# Altium footprint library Connector_Dsub.PcbLib: 104 footprints (part 1 of 7)
Each footprint in its own frame and in the unit in brackets; x right, y up, seen from the top. Pads: shape width x height; smd on the part's side, far side on the other; paste and mask are expansions set on the pad; w line width, h text height; cw(c..) or ccw(c..) is an arc to the next point about the centre after c.
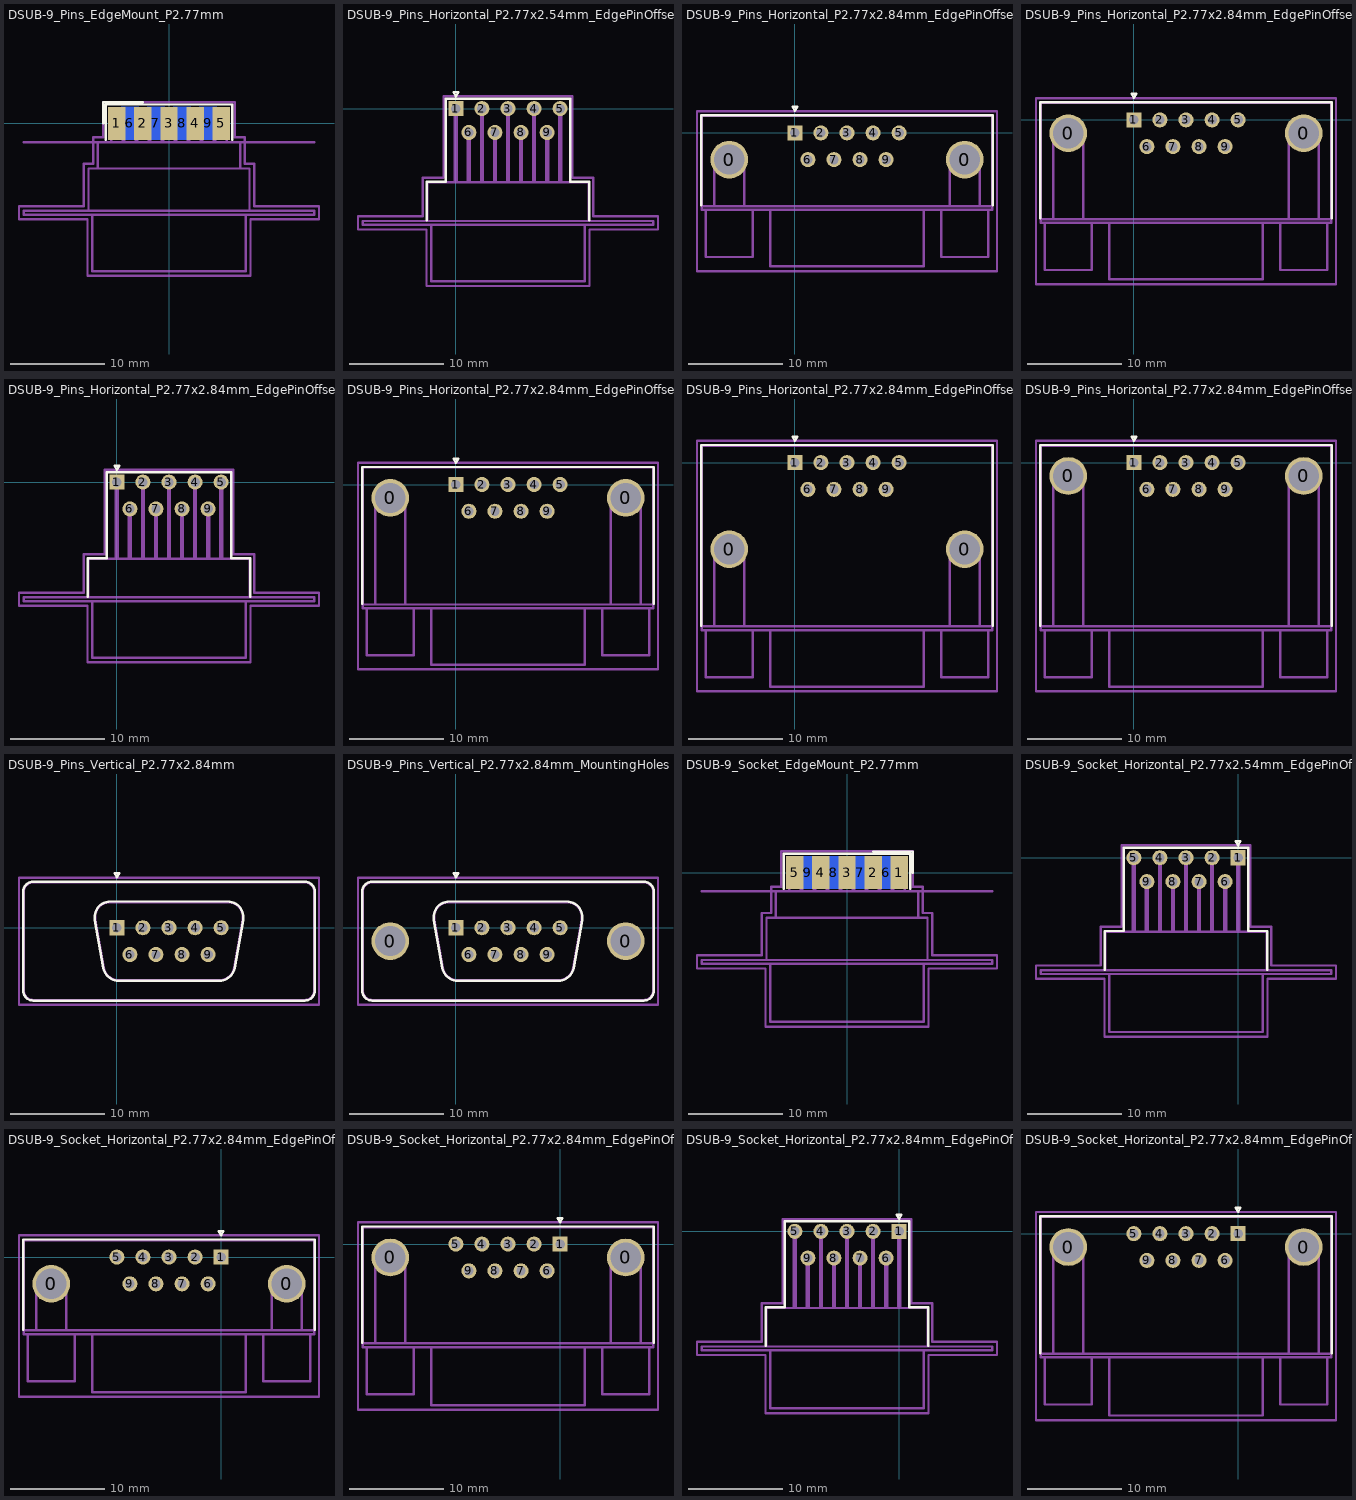
[diagram p0: the footprints below, top view; thin cyan lines are the x and y axes]

## DSUB-9_Pins_EdgeMount_P2.77mm [mm]
pads (9):
  rect 1.847x3.48 smd: 1(-5.54,0) 2(-2.77,0) 3(0,0) 4(2.77,0) 5(5.54,0)
  rect 1.847x3.48 smd far side: 6(-4.155,0) 7(-1.385,0) 8(1.385,0) 9(4.155,0)
F.SilkS:
  lines w0.254: -6.963,0 -6.963,2.24 -2.77,2.24 ; -6.723,-1.74 -6.723,2 6.723,2 6.723,-1.74
F.Fab:
  lines w0.254: -15.425,-9.69 -15.425,-9.29 15.425,-9.29 15.425,-9.69 -15.425,-9.69 ; -8.55,-9.29 -8.55,-4.79 8.55,-4.79 8.55,-9.29 -8.55,-9.29 ; -8.15,-15.69 -8.15,-9.69 8.15,-9.69 8.15,-15.69 -8.15,-15.69 ; -7.55,-4.79 -7.55,-1.99 7.55,-1.99 7.55,-4.79 -7.55,-4.79 ; -6.14,-1.99 -6.14,0.91 -4.94,0.91 -4.94,-1.99 -6.14,-1.99 ; -3.37,-1.99 -3.37,0.91 -2.17,0.91 -2.17,-1.99 -3.37,-1.99 ; -0.6,-1.99 -0.6,0.91 0.6,0.91 0.6,-1.99 -0.6,-1.99 ; 2.17,-1.99 2.17,0.91 3.37,0.91 3.37,-1.99 2.17,-1.99 ; 4.94,-1.99 4.94,0.91 6.14,0.91 6.14,-1.99 4.94,-1.99
  text "'.Designator'" at -4.047,-4.23 h1
B.Fab:
  lines w0.254: -4.755,-1.99 -4.755,0.91 -3.555,0.91 -3.555,-1.99 -4.755,-1.99 ; -1.985,-1.99 -1.985,0.91 -0.785,0.91 -0.785,-1.99 -1.985,-1.99 ; 0.785,-1.99 0.785,0.91 1.985,0.91 1.985,-1.99 0.785,-1.99 ; 3.555,-1.99 3.555,0.91 4.755,0.91 4.755,-1.99 3.555,-1.99
F.CrtYd:
  lines w0.254: -15.93,-10.19 -15.93,-8.79 -9.05,-8.79 -9.05,-4.29 -8.05,-4.29 -8.05,-1.49 -6.97,-1.49 -6.97,2.25 6.97,2.25 6.97,-1.49 8.05,-1.49 8.05,-4.29 9.05,-4.29 9.05,-8.79 15.93,-8.79 15.93,-10.19 8.65,-10.19 8.65,-16.19 -8.65,-16.19 -8.65,-10.19 -15.93,-10.19
Dwgs.User:
  lines w0.254: -15.425,-1.99 15.425,-1.99
  text "PCB edge" at -12.148,-1.732 h0.5

## DSUB-9_Pins_Horizontal_P2.77x2.54mm_EdgePinOffset9.40mm [mm]
pads (9):
  rect 1.6x1.6 hole 1: 1(0,0)
  round 1.6 hole 1: 2(2.77,0) 3(5.54,0) 4(8.31,0) 5(11.08,0) 6(1.385,-2.54) 7(4.155,-2.54) 8(6.925,-2.54) 9(9.695,-2.54)
F.SilkS:
  lines w0.254: -3.07,-11.88 -3.07,-7.78 -1.06,-7.78 -1.06,1.06 12.14,1.06 12.14,-7.78 14.15,-7.78 14.15,-11.88 ; -0.25,1.754 0.25,1.754 0,1.321 -0.25,1.754
F.Fab:
  lines w0.254: -0.1,-7.84 -0.1,0 ; 0,-7.84 0,0 ; 0.1,-7.84 0.1,0 ; 1.285,-7.84 1.285,-2.54 ; 1.385,-7.84 1.385,-2.54 ; 1.485,-7.84 1.485,-2.54 ; 2.67,-7.84 2.67,0 ; 2.77,-7.84 2.77,0 ; 2.87,-7.84 2.87,0 ; 4.055,-7.84 4.055,-2.54 ; 4.155,-7.84 4.155,-2.54 ; 4.255,-7.84 4.255,-2.54 ; 5.44,-7.84 5.44,0 ; 5.54,-7.84 5.54,0 ; 5.64,-7.84 5.64,0 ; 6.825,-7.84 6.825,-2.54 ; 6.925,-7.84 6.925,-2.54 ; 7.025,-7.84 7.025,-2.54 ; 8.21,-7.84 8.21,0 ; 8.31,-7.84 8.31,0 ; 8.41,-7.84 8.41,0 ; 9.595,-7.84 9.595,-2.54 ; 9.695,-7.84 9.695,-2.54 ; 9.795,-7.84 9.795,-2.54 ; 10.98,-7.84 10.98,0 ; 11.08,-7.84 11.08,0 ; 11.18,-7.84 11.18,0 ; -9.885,-12.34 -9.885,-11.94 20.965,-11.94 20.965,-12.34 -9.885,-12.34 ; -3.01,-11.94 -3.01,-7.84 14.09,-7.84 14.09,-11.94 -3.01,-11.94 ; -2.61,-18.34 -2.61,-12.34 13.69,-12.34 13.69,-18.34 -2.61,-18.34
  text "'.Designator'" at 1.493,-16.18 h1
F.CrtYd:
  lines w0.254: -10.39,-12.84 -10.39,-11.44 -3.52,-11.44 -3.52,-7.34 -1.3,-7.34 -1.3,1.31 12.38,1.31 12.38,-7.34 14.59,-7.34 14.59,-11.44 21.47,-11.44 21.47,-12.84 14.19,-12.84 14.19,-18.84 -3.11,-18.84 -3.11,-12.84 -10.39,-12.84

## DSUB-9_Pins_Horizontal_P2.77x2.84mm_EdgePinOffset4.94mm_Housed_MountingHolesOffset4.94mm [mm]
pads (11):
  round 4 hole 3.2: 0(-6.96,-2.84) 0(18.04,-2.84)
  rect 1.6x1.6 hole 1: 1(0,0)
  round 1.6 hole 1: 2(2.77,0) 3(5.54,0) 4(8.31,0) 5(11.08,0) 6(1.385,-2.84) 7(4.155,-2.84) 8(6.925,-2.84) 9(9.695,-2.84)
F.SilkS:
  lines w0.254: -9.945,-7.72 -9.945,1.86 21.025,1.86 21.025,-7.72 ; -0.25,2.754 0.25,2.754 0,2.321 -0.25,2.754
F.Fab:
  lines w0.254: -8.56,-7.78 -8.56,-2.84 cw(c-6.96,-2.84) -5.36,-2.84 -5.36,-7.78 ; 16.44,-7.78 16.44,-2.84 cw(c18.04,-2.84) 19.64,-2.84 19.64,-7.78 ; -9.885,-7.78 -9.885,1.8 20.965,1.8 20.965,-7.78 ; -9.885,-7.78 -9.885,-8.18 20.965,-8.18 20.965,-7.78 ; -9.885,-7.78 20.965,-7.78 ; -9.885,-7.78 20.965,-7.78 ; -9.46,-13.18 -9.46,-8.18 -4.46,-8.18 -4.46,-13.18 -9.46,-13.18 ; -2.61,-14.18 -2.61,-8.18 13.69,-8.18 13.69,-14.18 -2.61,-14.18 ; 15.54,-13.18 15.54,-8.18 20.54,-8.18 20.54,-13.18 15.54,-13.18
  text "'.Designator'" at 1.493,-12.02 h1
F.CrtYd:
  lines w0.254: -10.39,-14.68 -10.39,2.31 21.47,2.31 21.47,-14.68 -10.39,-14.68

## DSUB-9_Pins_Horizontal_P2.77x2.84mm_EdgePinOffset7.70mm_Housed_MountingHolesOffset9.12mm [mm]
pads (11):
  round 4 hole 3.2: 0(-6.96,-1.42) 0(18.04,-1.42)
  rect 1.6x1.6 hole 1: 1(0,0)
  round 1.6 hole 1: 2(2.77,0) 3(5.54,0) 4(8.31,0) 5(11.08,0) 6(1.385,-2.84) 7(4.155,-2.84) 8(6.925,-2.84) 9(9.695,-2.84)
F.SilkS:
  lines w0.254: -9.945,-10.48 -9.945,1.86 21.025,1.86 21.025,-10.48 ; -0.25,2.754 0.25,2.754 0,2.321 -0.25,2.754
F.Fab:
  lines w0.254: -8.56,-10.54 -8.56,-1.42 cw(c-6.96,-1.42) -5.36,-1.42 -5.36,-10.54 ; 16.44,-10.54 16.44,-1.42 cw(c18.04,-1.42) 19.64,-1.42 19.64,-10.54 ; -9.885,-10.54 -9.885,1.8 20.965,1.8 20.965,-10.54 ; -9.885,-10.54 -9.885,-10.94 20.965,-10.94 20.965,-10.54 ; -9.885,-10.54 20.965,-10.54 ; -9.885,-10.54 20.965,-10.54 ; -9.46,-15.94 -9.46,-10.94 -4.46,-10.94 -4.46,-15.94 -9.46,-15.94 ; -2.61,-16.94 -2.61,-10.94 13.69,-10.94 13.69,-16.94 -2.61,-16.94 ; 15.54,-15.94 15.54,-10.94 20.54,-10.94 20.54,-15.94 15.54,-15.94
  text "'.Designator'" at 1.493,-14.78 h1
F.CrtYd:
  lines w0.254: -10.39,-17.44 -10.39,2.31 21.47,2.31 21.47,-17.44 -10.39,-17.44

## DSUB-9_Pins_Horizontal_P2.77x2.84mm_EdgePinOffset9.40mm [mm]
pads (9):
  rect 1.6x1.6 hole 1: 1(0,0)
  round 1.6 hole 1: 2(2.77,0) 3(5.54,0) 4(8.31,0) 5(11.08,0) 6(1.385,-2.84) 7(4.155,-2.84) 8(6.925,-2.84) 9(9.695,-2.84)
F.SilkS:
  lines w0.254: -3.07,-12.18 -3.07,-8.08 -1.06,-8.08 -1.06,1.06 12.14,1.06 12.14,-8.08 14.15,-8.08 14.15,-12.18 ; -0.25,1.754 0.25,1.754 0,1.321 -0.25,1.754
F.Fab:
  lines w0.254: -0.1,-8.14 -0.1,0 ; 0,-8.14 0,0 ; 0.1,-8.14 0.1,0 ; 1.285,-8.14 1.285,-2.84 ; 1.385,-8.14 1.385,-2.84 ; 1.485,-8.14 1.485,-2.84 ; 2.67,-8.14 2.67,0 ; 2.77,-8.14 2.77,0 ; 2.87,-8.14 2.87,0 ; 4.055,-8.14 4.055,-2.84 ; 4.155,-8.14 4.155,-2.84 ; 4.255,-8.14 4.255,-2.84 ; 5.44,-8.14 5.44,0 ; 5.54,-8.14 5.54,0 ; 5.64,-8.14 5.64,0 ; 6.825,-8.14 6.825,-2.84 ; 6.925,-8.14 6.925,-2.84 ; 7.025,-8.14 7.025,-2.84 ; 8.21,-8.14 8.21,0 ; 8.31,-8.14 8.31,0 ; 8.41,-8.14 8.41,0 ; 9.595,-8.14 9.595,-2.84 ; 9.695,-8.14 9.695,-2.84 ; 9.795,-8.14 9.795,-2.84 ; 10.98,-8.14 10.98,0 ; 11.08,-8.14 11.08,0 ; 11.18,-8.14 11.18,0 ; -9.885,-12.64 -9.885,-12.24 20.965,-12.24 20.965,-12.64 -9.885,-12.64 ; -3.01,-12.24 -3.01,-8.14 14.09,-8.14 14.09,-12.24 -3.01,-12.24 ; -2.61,-18.64 -2.61,-12.64 13.69,-12.64 13.69,-18.64 -2.61,-18.64
  text "'.Designator'" at 1.493,-16.48 h1
F.CrtYd:
  lines w0.254: -10.39,-13.14 -10.39,-11.74 -3.52,-11.74 -3.52,-7.64 -1.3,-7.64 -1.3,1.31 12.38,1.31 12.38,-7.64 14.59,-7.64 14.59,-11.74 21.47,-11.74 21.47,-13.14 14.19,-13.14 14.19,-19.14 -3.11,-19.14 -3.11,-13.14 -10.39,-13.14

## DSUB-9_Pins_Horizontal_P2.77x2.84mm_EdgePinOffset9.90mm_Housed_MountingHolesOffset11.32mm [mm]
pads (11):
  round 4 hole 3.2: 0(-6.96,-1.42) 0(18.04,-1.42)
  rect 1.6x1.6 hole 1: 1(0,0)
  round 1.6 hole 1: 2(2.77,0) 3(5.54,0) 4(8.31,0) 5(11.08,0) 6(1.385,-2.84) 7(4.155,-2.84) 8(6.925,-2.84) 9(9.695,-2.84)
F.SilkS:
  lines w0.254: -9.945,-12.68 -9.945,1.86 21.025,1.86 21.025,-12.68 ; -0.25,2.754 0.25,2.754 0,2.321 -0.25,2.754
F.Fab:
  lines w0.254: -8.56,-12.74 -8.56,-1.42 cw(c-6.96,-1.42) -5.36,-1.42 -5.36,-12.74 ; 16.44,-12.74 16.44,-1.42 cw(c18.04,-1.42) 19.64,-1.42 19.64,-12.74 ; -9.885,-12.74 -9.885,1.8 20.965,1.8 20.965,-12.74 ; -9.885,-12.74 -9.885,-13.14 20.965,-13.14 20.965,-12.74 ; -9.885,-12.74 20.965,-12.74 ; -9.885,-12.74 20.965,-12.74 ; -9.46,-18.14 -9.46,-13.14 -4.46,-13.14 -4.46,-18.14 -9.46,-18.14 ; -2.61,-19.14 -2.61,-13.14 13.69,-13.14 13.69,-19.14 -2.61,-19.14 ; 15.54,-18.14 15.54,-13.14 20.54,-13.14 20.54,-18.14 15.54,-18.14
  text "'.Designator'" at 1.493,-16.98 h1
F.CrtYd:
  lines w0.254: -10.39,-19.64 -10.39,2.31 21.47,2.31 21.47,-19.64 -10.39,-19.64

## DSUB-9_Pins_Horizontal_P2.77x2.84mm_EdgePinOffset14.56mm_Housed_MountingHolesOffset8.20mm [mm]
pads (11):
  round 4 hole 3.2: 0(-6.96,-9.2) 0(18.04,-9.2)
  rect 1.6x1.6 hole 1: 1(0,0)
  round 1.6 hole 1: 2(2.77,0) 3(5.54,0) 4(8.31,0) 5(11.08,0) 6(1.385,-2.84) 7(4.155,-2.84) 8(6.925,-2.84) 9(9.695,-2.84)
F.SilkS:
  lines w0.254: -9.945,-17.34 -9.945,1.86 21.025,1.86 21.025,-17.34 ; -0.25,2.754 0.25,2.754 0,2.321 -0.25,2.754
F.Fab:
  lines w0.254: -8.56,-17.4 -8.56,-9.2 cw(c-6.96,-9.2) -5.36,-9.2 -5.36,-17.4 ; 16.44,-17.4 16.44,-9.2 cw(c18.04,-9.2) 19.64,-9.2 19.64,-17.4 ; -9.885,-17.4 -9.885,1.8 20.965,1.8 20.965,-17.4 ; -9.885,-17.4 -9.885,-17.8 20.965,-17.8 20.965,-17.4 ; -9.885,-17.4 20.965,-17.4 ; -9.885,-17.4 20.965,-17.4 ; -9.46,-22.8 -9.46,-17.8 -4.46,-17.8 -4.46,-22.8 -9.46,-22.8 ; -2.61,-23.8 -2.61,-17.8 13.69,-17.8 13.69,-23.8 -2.61,-23.8 ; 15.54,-22.8 15.54,-17.8 20.54,-17.8 20.54,-22.8 15.54,-22.8
  text "'.Designator'" at 1.493,-21.64 h1
F.CrtYd:
  lines w0.254: -10.39,-24.3 -10.39,2.3 21.47,2.3 21.47,-24.3 -10.39,-24.3

## DSUB-9_Pins_Horizontal_P2.77x2.84mm_EdgePinOffset14.56mm_Housed_MountingHolesOffset15.98mm [mm]
pads (11):
  round 4 hole 3.2: 0(-6.96,-1.42) 0(18.04,-1.42)
  rect 1.6x1.6 hole 1: 1(0,0)
  round 1.6 hole 1: 2(2.77,0) 3(5.54,0) 4(8.31,0) 5(11.08,0) 6(1.385,-2.84) 7(4.155,-2.84) 8(6.925,-2.84) 9(9.695,-2.84)
F.SilkS:
  lines w0.254: -9.945,-17.34 -9.945,1.86 21.025,1.86 21.025,-17.34 ; -0.25,2.754 0.25,2.754 0,2.321 -0.25,2.754
F.Fab:
  lines w0.254: -8.56,-17.4 -8.56,-1.42 cw(c-6.96,-1.42) -5.36,-1.42 -5.36,-17.4 ; 16.44,-17.4 16.44,-1.42 cw(c18.04,-1.42) 19.64,-1.42 19.64,-17.4 ; -9.885,-17.4 -9.885,1.8 20.965,1.8 20.965,-17.4 ; -9.885,-17.4 -9.885,-17.8 20.965,-17.8 20.965,-17.4 ; -9.885,-17.4 20.965,-17.4 ; -9.885,-17.4 20.965,-17.4 ; -9.46,-22.8 -9.46,-17.8 -4.46,-17.8 -4.46,-22.8 -9.46,-22.8 ; -2.61,-23.8 -2.61,-17.8 13.69,-17.8 13.69,-23.8 -2.61,-23.8 ; 15.54,-22.8 15.54,-17.8 20.54,-17.8 20.54,-22.8 15.54,-22.8
  text "'.Designator'" at 1.493,-21.64 h1
F.CrtYd:
  lines w0.254: -10.39,-24.3 -10.39,2.3 21.47,2.3 21.47,-24.3 -10.39,-24.3

## DSUB-9_Pins_Vertical_P2.77x2.84mm [mm]
pads (9):
  rect 1.6x1.6 hole 1: 1(0,0)
  round 1.6 hole 1: 2(2.77,0) 3(5.54,0) 4(8.31,0) 5(11.08,0) 6(1.385,-2.84) 7(4.155,-2.84) 8(6.925,-2.84) 9(9.695,-2.84)
F.SilkS:
  lines w0.254: -9.945,-6.67 -9.945,3.83 cw(c-8.885,3.83) -8.885,4.89 19.965,4.89 cw(c19.965,3.83) 21.025,3.83 21.025,-6.67 cw(c19.965,-6.67) 19.965,-7.73 -8.885,-7.73 cw(c-8.885,-6.67) -9.945,-6.67 ; -2.326,0.842 -1.427,-4.258 ccw(c0.208,-3.97) 0.208,-5.63 10.872,-5.63 ccw(c10.872,-3.97) 12.507,-4.258 13.406,0.842 ccw(c11.772,1.13) 11.772,2.79 -0.692,2.79 ccw(c-0.692,1.13) -2.326,0.842 ; -0.25,5.784 0.25,5.784 0,5.351 -0.25,5.784
F.Fab:
  lines w0.254: -9.885,-6.67 -9.885,3.83 cw(c-8.885,3.83) -8.885,4.83 19.965,4.83 cw(c19.965,3.83) 20.965,3.83 20.965,-6.67 cw(c19.965,-6.67) 19.965,-7.67 -8.885,-7.67 cw(c-8.885,-6.67) -9.885,-6.67 ; -2.279,0.852 -1.38,-4.248 ccw(c0.196,-3.97) 0.196,-5.57 10.884,-5.57 ccw(c10.884,-3.97) 12.46,-4.248 13.359,0.852 ccw(c11.783,1.13) 11.783,2.73 -0.703,2.73 ccw(c-0.703,1.13) -2.279,0.852
  text "'.Designator'" at 1.493,-2.26 h1
F.CrtYd:
  lines w0.254: -10.39,-8.17 -10.39,5.33 21.47,5.33 21.47,-8.17 -10.39,-8.17

## DSUB-9_Pins_Vertical_P2.77x2.84mm_MountingHoles [mm]
pads (11):
  round 4 hole 3.2: 0(-6.96,-1.42) 0(18.04,-1.42)
  rect 1.6x1.6 hole 1: 1(0,0)
  round 1.6 hole 1: 2(2.77,0) 3(5.54,0) 4(8.31,0) 5(11.08,0) 6(1.385,-2.84) 7(4.155,-2.84) 8(6.925,-2.84) 9(9.695,-2.84)
F.SilkS:
  lines w0.254: -9.945,-6.67 -9.945,3.83 cw(c-8.885,3.83) -8.885,4.89 19.965,4.89 cw(c19.965,3.83) 21.025,3.83 21.025,-6.67 cw(c19.965,-6.67) 19.965,-7.73 -8.885,-7.73 cw(c-8.885,-6.67) -9.945,-6.67 ; -2.326,0.842 -1.427,-4.258 ccw(c0.208,-3.97) 0.208,-5.63 10.872,-5.63 ccw(c10.872,-3.97) 12.507,-4.258 13.406,0.842 ccw(c11.772,1.13) 11.772,2.79 -0.692,2.79 ccw(c-0.692,1.13) -2.326,0.842 ; -0.25,5.784 0.25,5.784 0,5.351 -0.25,5.784
F.Fab:
  lines w0.254: -9.885,-6.67 -9.885,3.83 cw(c-8.885,3.83) -8.885,4.83 19.965,4.83 cw(c19.965,3.83) 20.965,3.83 20.965,-6.67 cw(c19.965,-6.67) 19.965,-7.67 -8.885,-7.67 cw(c-8.885,-6.67) -9.885,-6.67 ; -2.279,0.852 -1.38,-4.248 ccw(c0.196,-3.97) 0.196,-5.57 10.884,-5.57 ccw(c10.884,-3.97) 12.46,-4.248 13.359,0.852 ccw(c11.783,1.13) 11.783,2.73 -0.703,2.73 ccw(c-0.703,1.13) -2.279,0.852
  text "'.Designator'" at 1.493,-2.26 h1
F.CrtYd:
  lines w0.254: -10.39,-8.17 -10.39,5.33 21.47,5.33 21.47,-8.17 -10.39,-8.17

## DSUB-9_Socket_EdgeMount_P2.77mm [mm]
pads (9):
  rect 1.847x3.48 smd: 1(5.54,0) 2(2.77,0) 3(0,0) 4(-2.77,0) 5(-5.54,0)
  rect 1.847x3.48 smd far side: 6(4.155,0) 7(1.385,0) 8(-1.385,0) 9(-4.155,0)
F.SilkS:
  lines w0.254: -6.723,-1.74 -6.723,2 6.723,2 6.723,-1.74 ; 2.77,2.24 6.963,2.24 6.963,0
F.Fab:
  lines w0.254: -15.425,-9.69 -15.425,-9.29 15.425,-9.29 15.425,-9.69 -15.425,-9.69 ; -8.55,-9.29 -8.55,-4.79 8.55,-4.79 8.55,-9.29 -8.55,-9.29 ; -8.15,-15.86 -8.15,-9.69 8.15,-9.69 8.15,-15.86 -8.15,-15.86 ; -7.55,-4.79 -7.55,-1.99 7.55,-1.99 7.55,-4.79 -7.55,-4.79 ; -6.14,-1.99 -6.14,0.91 -4.94,0.91 -4.94,-1.99 -6.14,-1.99 ; -3.37,-1.99 -3.37,0.91 -2.17,0.91 -2.17,-1.99 -3.37,-1.99 ; -0.6,-1.99 -0.6,0.91 0.6,0.91 0.6,-1.99 -0.6,-1.99 ; 2.17,-1.99 2.17,0.91 3.37,0.91 3.37,-1.99 2.17,-1.99 ; 4.94,-1.99 4.94,0.91 6.14,0.91 6.14,-1.99 4.94,-1.99
  text "'.Designator'" at -4.047,-4.23 h1
B.Fab:
  lines w0.254: -4.755,-1.99 -4.755,0.91 -3.555,0.91 -3.555,-1.99 -4.755,-1.99 ; -1.985,-1.99 -1.985,0.91 -0.785,0.91 -0.785,-1.99 -1.985,-1.99 ; 0.785,-1.99 0.785,0.91 1.985,0.91 1.985,-1.99 0.785,-1.99 ; 3.555,-1.99 3.555,0.91 4.755,0.91 4.755,-1.99 3.555,-1.99
F.CrtYd:
  lines w0.254: -15.93,-10.19 -15.93,-8.79 -9.05,-8.79 -9.05,-4.29 -8.05,-4.29 -8.05,-1.49 -6.97,-1.49 -6.97,2.25 6.97,2.25 6.97,-1.49 8.05,-1.49 8.05,-4.29 9.05,-4.29 9.05,-8.79 15.93,-8.79 15.93,-10.19 8.65,-10.19 8.65,-16.36 -8.65,-16.36 -8.65,-10.19 -15.93,-10.19
Dwgs.User:
  lines w0.254: -15.425,-1.99 15.425,-1.99
  text "PCB edge" at -12.148,-1.732 h0.5

## DSUB-9_Socket_Horizontal_P2.77x2.54mm_EdgePinOffset9.40mm [mm]
pads (9):
  rect 1.6x1.6 hole 1: 1(0,0)
  round 1.6 hole 1: 2(-2.77,0) 3(-5.54,0) 4(-8.31,0) 5(-11.08,0) 6(-1.385,-2.54) 7(-4.155,-2.54) 8(-6.925,-2.54) 9(-9.695,-2.54)
F.SilkS:
  lines w0.254: -14.15,-11.88 -14.15,-7.78 -12.14,-7.78 -12.14,1.06 1.06,1.06 1.06,-7.78 3.07,-7.78 3.07,-11.88 ; -0.25,1.754 0.25,1.754 0,1.321 -0.25,1.754
F.Fab:
  lines w0.254: -11.18,-7.84 -11.18,0 ; -11.08,-7.84 -11.08,0 ; -10.98,-7.84 -10.98,0 ; -9.795,-7.84 -9.795,-2.54 ; -9.695,-7.84 -9.695,-2.54 ; -9.595,-7.84 -9.595,-2.54 ; -8.41,-7.84 -8.41,0 ; -8.31,-7.84 -8.31,0 ; -8.21,-7.84 -8.21,0 ; -7.025,-7.84 -7.025,-2.54 ; -6.925,-7.84 -6.925,-2.54 ; -6.825,-7.84 -6.825,-2.54 ; -5.64,-7.84 -5.64,0 ; -5.54,-7.84 -5.54,0 ; -5.44,-7.84 -5.44,0 ; -4.255,-7.84 -4.255,-2.54 ; -4.155,-7.84 -4.155,-2.54 ; -4.055,-7.84 -4.055,-2.54 ; -2.87,-7.84 -2.87,0 ; -2.77,-7.84 -2.77,0 ; -2.67,-7.84 -2.67,0 ; -1.485,-7.84 -1.485,-2.54 ; -1.385,-7.84 -1.385,-2.54 ; -1.285,-7.84 -1.285,-2.54 ; -0.1,-7.84 -0.1,0 ; 0,-7.84 0,0 ; 0.1,-7.84 0.1,0 ; -20.965,-12.34 -20.965,-11.94 9.885,-11.94 9.885,-12.34 -20.965,-12.34 ; -14.09,-11.94 -14.09,-7.84 3.01,-7.84 3.01,-11.94 -14.09,-11.94 ; -13.69,-18.51 -13.69,-12.34 2.61,-12.34 2.61,-18.51 -13.69,-18.51
  text "'.Designator'" at -9.587,-16.265 h1
F.CrtYd:
  lines w0.254: -21.47,-12.84 -21.47,-11.44 -14.59,-11.44 -14.59,-7.34 -12.38,-7.34 -12.38,1.31 1.3,1.31 1.3,-7.34 3.52,-7.34 3.52,-11.44 10.39,-11.44 10.39,-12.84 3.11,-12.84 3.11,-19.01 -14.19,-19.01 -14.19,-12.84 -21.47,-12.84

## DSUB-9_Socket_Horizontal_P2.77x2.84mm_EdgePinOffset4.94mm_Housed_MountingHolesOffset4.94mm [mm]
pads (11):
  round 4 hole 3.2: 0(-18.04,-2.84) 0(6.96,-2.84)
  rect 1.6x1.6 hole 1: 1(0,0)
  round 1.6 hole 1: 2(-2.77,0) 3(-5.54,0) 4(-8.31,0) 5(-11.08,0) 6(-1.385,-2.84) 7(-4.155,-2.84) 8(-6.925,-2.84) 9(-9.695,-2.84)
F.SilkS:
  lines w0.254: -21.025,-7.72 -21.025,1.86 9.945,1.86 9.945,-7.72 ; -0.25,2.754 0.25,2.754 0,2.321 -0.25,2.754
F.Fab:
  lines w0.254: -19.64,-7.78 -19.64,-2.84 cw(c-18.04,-2.84) -16.44,-2.84 -16.44,-7.78 ; 5.36,-7.78 5.36,-2.84 cw(c6.96,-2.84) 8.56,-2.84 8.56,-7.78 ; -20.965,-7.78 -20.965,1.8 9.885,1.8 9.885,-7.78 ; -20.965,-7.78 -20.965,-8.18 9.885,-8.18 9.885,-7.78 ; -20.965,-7.78 9.885,-7.78 ; -20.965,-7.78 9.885,-7.78 ; -20.54,-13.18 -20.54,-8.18 -15.54,-8.18 -15.54,-13.18 -20.54,-13.18 ; -13.69,-14.35 -13.69,-8.18 2.61,-8.18 2.61,-14.35 -13.69,-14.35 ; 4.46,-13.18 4.46,-8.18 9.46,-8.18 9.46,-13.18 4.46,-13.18
  text "'.Designator'" at -9.587,-12.105 h1
F.CrtYd:
  lines w0.254: -21.47,-14.85 -21.47,2.31 10.39,2.31 10.39,-14.85 -21.47,-14.85

## DSUB-9_Socket_Horizontal_P2.77x2.84mm_EdgePinOffset7.70mm_Housed_MountingHolesOffset9.12mm [mm]
pads (11):
  round 4 hole 3.2: 0(-18.04,-1.42) 0(6.96,-1.42)
  rect 1.6x1.6 hole 1: 1(0,0)
  round 1.6 hole 1: 2(-2.77,0) 3(-5.54,0) 4(-8.31,0) 5(-11.08,0) 6(-1.385,-2.84) 7(-4.155,-2.84) 8(-6.925,-2.84) 9(-9.695,-2.84)
F.SilkS:
  lines w0.254: -21.025,-10.48 -21.025,1.86 9.945,1.86 9.945,-10.48 ; -0.25,2.754 0.25,2.754 0,2.321 -0.25,2.754
F.Fab:
  lines w0.254: -19.64,-10.54 -19.64,-1.42 cw(c-18.04,-1.42) -16.44,-1.42 -16.44,-10.54 ; 5.36,-10.54 5.36,-1.42 cw(c6.96,-1.42) 8.56,-1.42 8.56,-10.54 ; -20.965,-10.54 -20.965,1.8 9.885,1.8 9.885,-10.54 ; -20.965,-10.54 -20.965,-10.94 9.885,-10.94 9.885,-10.54 ; -20.965,-10.54 9.885,-10.54 ; -20.965,-10.54 9.885,-10.54 ; -20.54,-15.94 -20.54,-10.94 -15.54,-10.94 -15.54,-15.94 -20.54,-15.94 ; -13.69,-17.11 -13.69,-10.94 2.61,-10.94 2.61,-17.11 -13.69,-17.11 ; 4.46,-15.94 4.46,-10.94 9.46,-10.94 9.46,-15.94 4.46,-15.94
  text "'.Designator'" at -9.587,-14.865 h1
F.CrtYd:
  lines w0.254: -21.47,-17.61 -21.47,2.31 10.39,2.31 10.39,-17.61 -21.47,-17.61

## DSUB-9_Socket_Horizontal_P2.77x2.84mm_EdgePinOffset9.40mm [mm]
pads (9):
  rect 1.6x1.6 hole 1: 1(0,0)
  round 1.6 hole 1: 2(-2.77,0) 3(-5.54,0) 4(-8.31,0) 5(-11.08,0) 6(-1.385,-2.84) 7(-4.155,-2.84) 8(-6.925,-2.84) 9(-9.695,-2.84)
F.SilkS:
  lines w0.254: -14.15,-12.18 -14.15,-8.08 -12.14,-8.08 -12.14,1.06 1.06,1.06 1.06,-8.08 3.07,-8.08 3.07,-12.18 ; -0.25,1.754 0.25,1.754 0,1.321 -0.25,1.754
F.Fab:
  lines w0.254: -11.18,-8.14 -11.18,0 ; -11.08,-8.14 -11.08,0 ; -10.98,-8.14 -10.98,0 ; -9.795,-8.14 -9.795,-2.84 ; -9.695,-8.14 -9.695,-2.84 ; -9.595,-8.14 -9.595,-2.84 ; -8.41,-8.14 -8.41,0 ; -8.31,-8.14 -8.31,0 ; -8.21,-8.14 -8.21,0 ; -7.025,-8.14 -7.025,-2.84 ; -6.925,-8.14 -6.925,-2.84 ; -6.825,-8.14 -6.825,-2.84 ; -5.64,-8.14 -5.64,0 ; -5.54,-8.14 -5.54,0 ; -5.44,-8.14 -5.44,0 ; -4.255,-8.14 -4.255,-2.84 ; -4.155,-8.14 -4.155,-2.84 ; -4.055,-8.14 -4.055,-2.84 ; -2.87,-8.14 -2.87,0 ; -2.77,-8.14 -2.77,0 ; -2.67,-8.14 -2.67,0 ; -1.485,-8.14 -1.485,-2.84 ; -1.385,-8.14 -1.385,-2.84 ; -1.285,-8.14 -1.285,-2.84 ; -0.1,-8.14 -0.1,0 ; 0,-8.14 0,0 ; 0.1,-8.14 0.1,0 ; -20.965,-12.64 -20.965,-12.24 9.885,-12.24 9.885,-12.64 -20.965,-12.64 ; -14.09,-12.24 -14.09,-8.14 3.01,-8.14 3.01,-12.24 -14.09,-12.24 ; -13.69,-18.81 -13.69,-12.64 2.61,-12.64 2.61,-18.81 -13.69,-18.81
  text "'.Designator'" at -9.587,-16.565 h1
F.CrtYd:
  lines w0.254: -21.47,-13.14 -21.47,-11.74 -14.59,-11.74 -14.59,-7.64 -12.38,-7.64 -12.38,1.31 1.3,1.31 1.3,-7.64 3.52,-7.64 3.52,-11.74 10.39,-11.74 10.39,-13.14 3.11,-13.14 3.11,-19.32 -14.19,-19.32 -14.19,-13.14 -21.47,-13.14

## DSUB-9_Socket_Horizontal_P2.77x2.84mm_EdgePinOffset9.90mm_Housed_MountingHolesOffset11.32mm [mm]
pads (11):
  round 4 hole 3.2: 0(-18.04,-1.42) 0(6.96,-1.42)
  rect 1.6x1.6 hole 1: 1(0,0)
  round 1.6 hole 1: 2(-2.77,0) 3(-5.54,0) 4(-8.31,0) 5(-11.08,0) 6(-1.385,-2.84) 7(-4.155,-2.84) 8(-6.925,-2.84) 9(-9.695,-2.84)
F.SilkS:
  lines w0.254: -21.025,-12.68 -21.025,1.86 9.945,1.86 9.945,-12.68 ; -0.25,2.754 0.25,2.754 0,2.321 -0.25,2.754
F.Fab:
  lines w0.254: -19.64,-12.74 -19.64,-1.42 cw(c-18.04,-1.42) -16.44,-1.42 -16.44,-12.74 ; 5.36,-12.74 5.36,-1.42 cw(c6.96,-1.42) 8.56,-1.42 8.56,-12.74 ; -20.965,-12.74 -20.965,1.8 9.885,1.8 9.885,-12.74 ; -20.965,-12.74 -20.965,-13.14 9.885,-13.14 9.885,-12.74 ; -20.965,-12.74 9.885,-12.74 ; -20.965,-12.74 9.885,-12.74 ; -20.54,-18.14 -20.54,-13.14 -15.54,-13.14 -15.54,-18.14 -20.54,-18.14 ; -13.69,-19.31 -13.69,-13.14 2.61,-13.14 2.61,-19.31 -13.69,-19.31 ; 4.46,-18.14 4.46,-13.14 9.46,-13.14 9.46,-18.14 4.46,-18.14
  text "'.Designator'" at -9.587,-17.065 h1
F.CrtYd:
  lines w0.254: -21.47,-19.81 -21.47,2.31 10.39,2.31 10.39,-19.81 -21.47,-19.81